# EAGLE library part VIPER35HD (library ds_ic_peripherals)
Quasi-resonant high performance off line high voltage converter
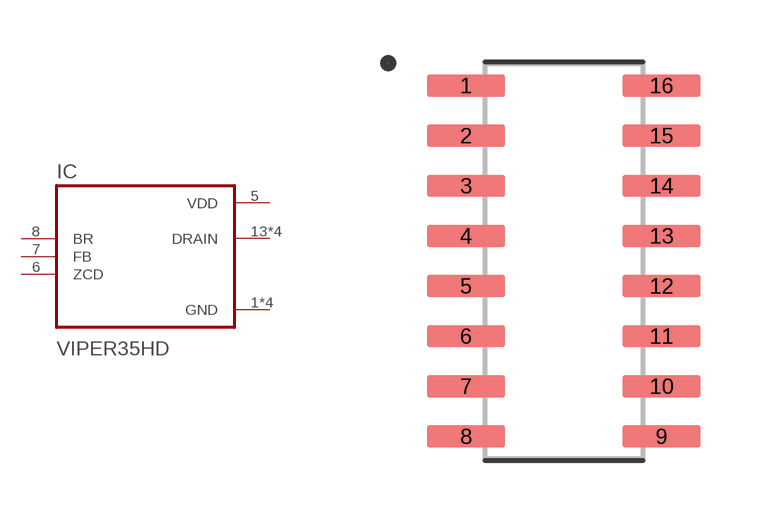
[diagram p32: symbol with the pads of VIPER35HD; footprint VIPER35HD]

Designator prefix IC

## VIPER35HD  [VIPER35HD]
1  GND  pwr
2  GND  pwr
3  GND  pwr
4  GND  pwr
5  VDD  pwr
6  ZCD  in
7  FB  in
8  BR  in
13  DRAIN  out
14  DRAIN  out
15  DRAIN  out
16  DRAIN  out

## Footprint VIPER35HD (pad centres in mm)
smd 1.97 x 0.57: 1 -2.475,4.445; 2 -2.475,3.175; 3 -2.475,1.905; 4 -2.475,0.635; 5 -2.475,-0.635; 6 -2.475,-1.905; 7 -2.475,-3.175; 8 -2.475,-4.445; 9 2.475,-4.445; 10 2.475,-3.175; 11 2.475,-1.905; 12 2.475,-0.635; 13 2.475,0.635; 14 2.475,1.905; 15 2.475,3.175; 16 2.475,4.445